# EAGLE library part TLV76733QWDRBRQ1 (library TLV76733QWDRBRQ1)
LDO Voltage Regulators Automotive adjustable- and fixed-output, 1-A, 16-V, positive-voltage low-dropout linear regulator 8-SON -40 to 150 Source: Datasheet <https://www.ti.com/lit/ds/symlink/tlv767-q1.pdf?ts=1623233650807&ref_url=https%3A%2F%2Fwww.ti.com%2Fstore%2Fti%2Fen%2Fp%2Fproduct%2F%3Fp%3DTLV76780QWDRBRQ1>
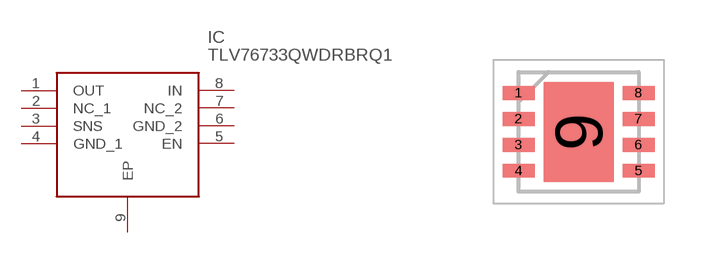
[diagram p0: symbol with the pads of SON65P300X300X100-9N; footprint SON65P300X300X100-9N]

Designator prefix IC

## TLV76733QWDRBRQ1 (Description: LDO Voltage Regulators Automotive adjustable- and fixed-output, 1-A, 16-V, positive-voltage low-dropout linear regulator 8-SON -40 to 150; Height: 1mm; Manufacturer_Name: Texas Instruments; Manufacturer_Part_Number: TLV76733QWDRBRQ1; Mouser_Part_Number: 595-TLV76733QWDRBRQ1; Mouser_Price-Stock: https://www.mouser.co.uk/ProductDetail/Texas-Instruments/TLV76733QWDRBRQ1?qs=eP2BKZSCXI5iL%252B1dqMuFDw%3D%3D)  [SON65P300X300X100-9N]
1  OUT
2  NC_1
3  SNS
4  GND_1
5  EN
6  GND_2
7  NC_2
8  IN
9  EP

## Footprint SON65P300X300X100-9N (pad centres in mm)
DRB0008J _2021
smd 0.8 x 0.35: 1 -1.5,0.975; 2 -1.5,0.325; 3 -1.5,-0.325; 4 -1.5,-0.975; 5 1.5,-0.975; 6 1.5,-0.325; 7 1.5,0.325; 8 1.5,0.975
smd 1.75 x 2.5: 9 0,0